# Altium footprint library Common-Parts-Library.PcbLib: 530 footprints (part 16 of 34)
Each footprint in its own frame and in the unit in brackets; x right, y up, seen from the top. Pads: shape width x height; smd on the part's side, far side on the other; paste and mask are expansions set on the pad; w line width, h text height; cw(c..) or ccw(c..) is an arc to the next point about the centre after c.
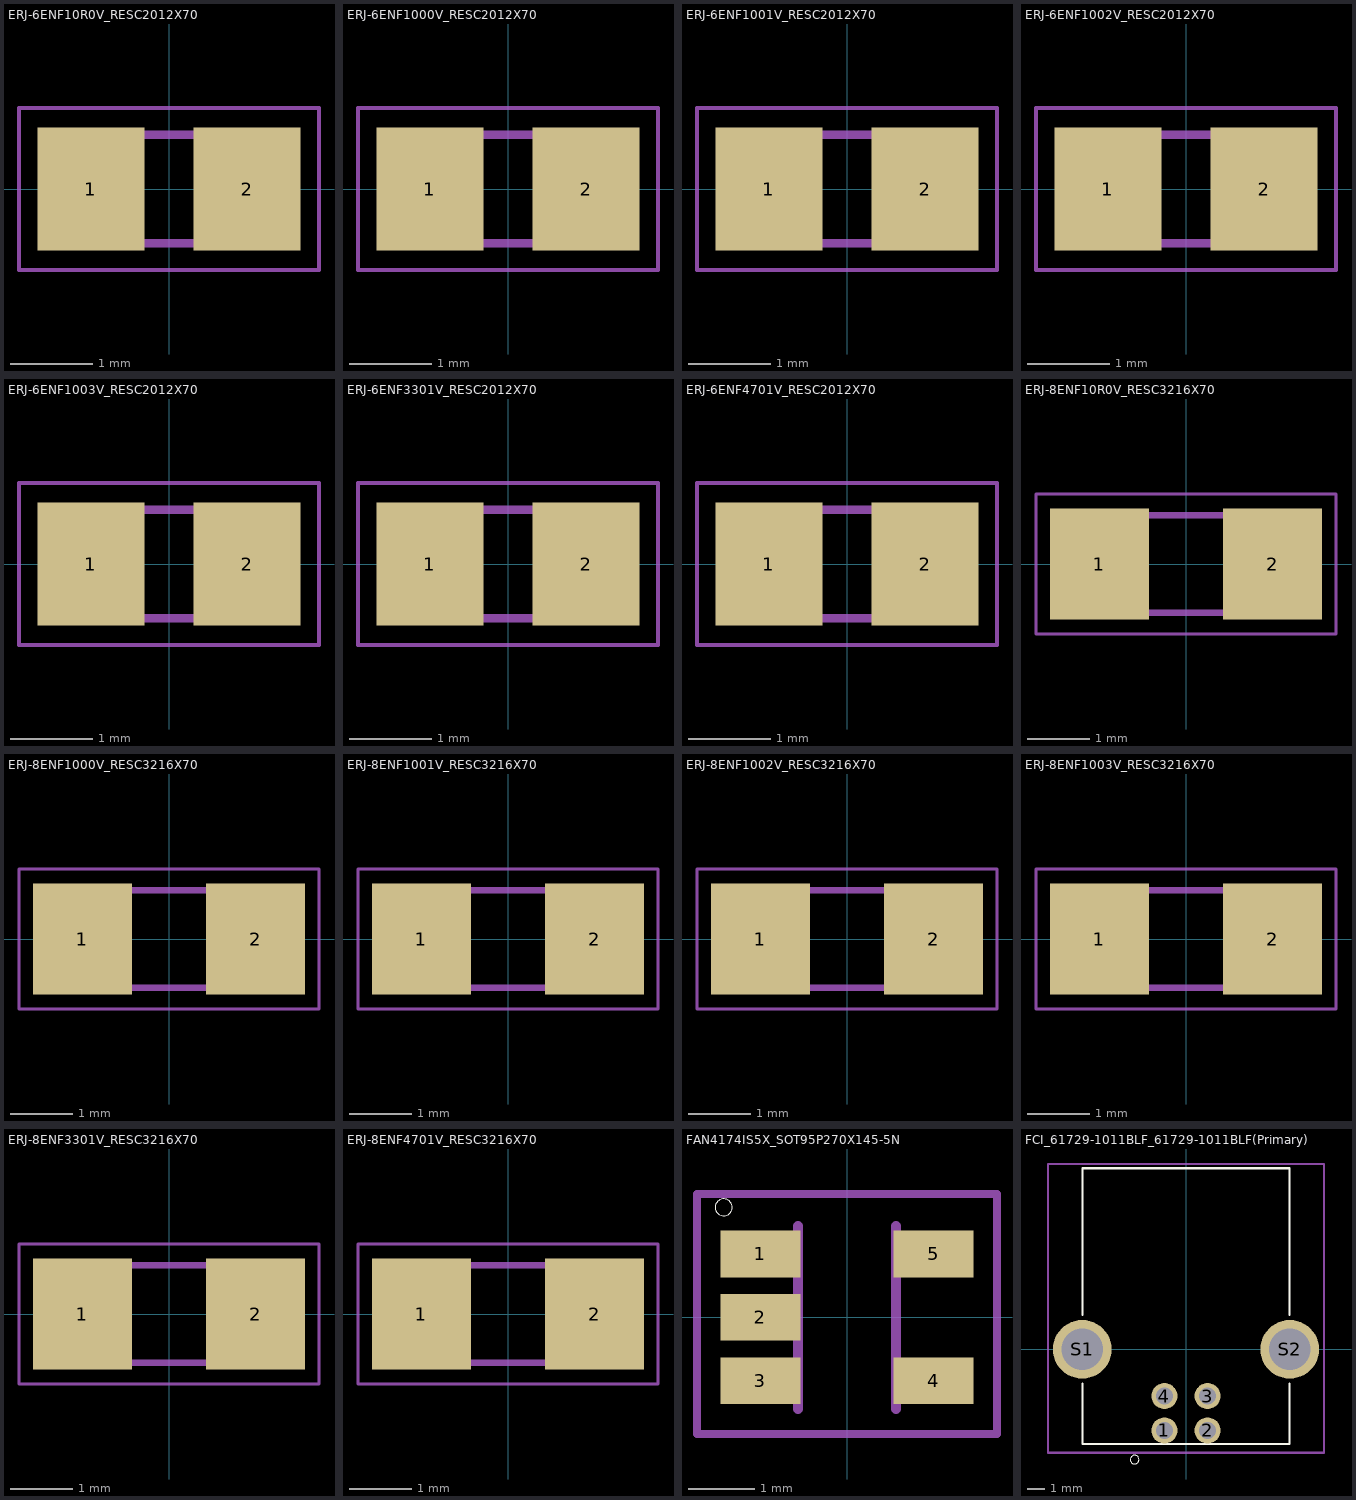
[diagram p15: the footprints below, top view; thin cyan lines are the x and y axes]

## ERJ-6ENF10R0V_RESC2012X70 [mm]
pads (2):
  rect 1.3x1.5 smd: 1(-0.95,0) 2(0.95,0)
Mechanical 1:
  region: 0.356,0.726 1.106,0.726 1.106,-0.724 0.356,-0.724
  region: -1.094,0.726 -0.342,0.726 -0.342,-0.725 -1.094,-0.725
  lines w0.051: -1.823,-0.983 -1.823,0.983 1.823,0.983 1.823,-0.983 -1.823,-0.983
  lines w0.102: -0.381,0.66 0.381,0.66 ; -0.356,-0.66 0.381,-0.66

## ERJ-6ENF1000V_RESC2012X70 [mm]
pads (2):
  rect 1.3x1.5 smd: 1(-0.95,0) 2(0.95,0)
Mechanical 1:
  region: 0.356,0.726 1.106,0.726 1.106,-0.725 0.356,-0.725
  region: -1.095,0.726 -0.342,0.726 -0.342,-0.726 -1.095,-0.726
  lines w0.051: -1.823,-0.983 -1.823,0.983 1.823,0.983 1.823,-0.983 -1.823,-0.983
  lines w0.102: -0.381,0.66 0.381,0.66 ; -0.356,-0.66 0.381,-0.66

## ERJ-6ENF1001V_RESC2012X70 [mm]
pads (2):
  rect 1.3x1.5 smd: 1(-0.95,0) 2(0.95,0)
Mechanical 1:
  region: 0.356,0.726 1.106,0.726 1.106,-0.725 0.356,-0.725
  region: -1.093,0.726 -0.342,0.726 -0.342,-0.724 -1.093,-0.724
  lines w0.051: -1.823,-0.983 -1.823,0.983 1.823,0.983 1.823,-0.983 -1.823,-0.983
  lines w0.102: -0.381,0.66 0.381,0.66 ; -0.356,-0.66 0.381,-0.66

## ERJ-6ENF1002V_RESC2012X70 [mm]
pads (2):
  rect 1.3x1.5 smd: 1(-0.95,0) 2(0.95,0)
Mechanical 1:
  region: 0.356,0.726 1.106,0.726 1.106,-0.725 0.356,-0.725
  region: -1.096,0.726 -0.342,0.726 -0.342,-0.726 -1.096,-0.726
  lines w0.051: -1.823,-0.983 -1.823,0.983 1.823,0.983 1.823,-0.983 -1.823,-0.983
  lines w0.102: -0.381,0.66 0.381,0.66 ; -0.356,-0.66 0.381,-0.66

## ERJ-6ENF1003V_RESC2012X70 [mm]
pads (2):
  rect 1.3x1.5 smd: 1(-0.95,0) 2(0.95,0)
Mechanical 1:
  region: 0.356,0.726 1.106,0.726 1.106,-0.726 0.356,-0.726
  region: -1.093,0.726 -0.342,0.726 -0.342,-0.725 -1.093,-0.725
  lines w0.051: -1.823,-0.983 -1.823,0.983 1.823,0.983 1.823,-0.983 -1.823,-0.983
  lines w0.102: -0.381,0.66 0.381,0.66 ; -0.356,-0.66 0.381,-0.66

## ERJ-6ENF3301V_RESC2012X70 [mm]
pads (2):
  rect 1.3x1.5 smd: 1(-0.95,0) 2(0.95,0)
Mechanical 1:
  region: 0.356,0.726 1.106,0.726 1.106,-0.725 0.356,-0.725
  region: -1.093,0.726 -0.342,0.726 -0.342,-0.725 -1.093,-0.725
  lines w0.051: -1.823,-0.983 -1.823,0.983 1.823,0.983 1.823,-0.983 -1.823,-0.983
  lines w0.102: -0.381,0.66 0.381,0.66 ; -0.356,-0.66 0.381,-0.66

## ERJ-6ENF4701V_RESC2012X70 [mm]
pads (2):
  rect 1.3x1.5 smd: 1(-0.95,0) 2(0.95,0)
Mechanical 1:
  region: 0.357,0.726 1.106,0.726 1.106,-0.726 0.357,-0.726
  region: -1.095,0.726 -0.342,0.726 -0.342,-0.726 -1.095,-0.726
  lines w0.051: -1.823,-0.983 -1.823,0.983 1.823,0.983 1.823,-0.983 -1.823,-0.983
  lines w0.102: -0.381,0.66 0.381,0.66 ; -0.356,-0.66 0.381,-0.66

## ERJ-8ENF10R0V_RESC3216X70 [mm]
pads (2):
  rect 1.6x1.8 smd: 1(-1.4,0) 2(1.4,0)
Mechanical 1:
  lines w0.051: -2.423,-1.133 -2.423,1.133 2.423,1.133 2.423,-1.133 -2.423,-1.133
  lines w0.102: -0.965,-0.787 0.965,-0.787 ; -0.965,0.787 0.965,0.787

## ERJ-8ENF1000V_RESC3216X70 [mm]
pads (2):
  rect 1.6x1.8 smd: 1(-1.4,0) 2(1.4,0)
Mechanical 1:
  lines w0.051: -2.423,-1.133 -2.423,1.133 2.423,1.133 2.423,-1.133 -2.423,-1.133
  lines w0.102: -0.965,-0.787 0.965,-0.787 ; -0.965,0.787 0.965,0.787

## ERJ-8ENF1001V_RESC3216X70 [mm]
pads (2):
  rect 1.6x1.8 smd: 1(-1.4,0) 2(1.4,0)
Mechanical 1:
  lines w0.051: -2.423,-1.133 -2.423,1.133 2.423,1.133 2.423,-1.133 -2.423,-1.133
  lines w0.102: -0.965,-0.787 0.965,-0.787 ; -0.965,0.787 0.965,0.787

## ERJ-8ENF1002V_RESC3216X70 [mm]
pads (2):
  rect 1.6x1.8 smd: 1(-1.4,0) 2(1.4,0)
Mechanical 1:
  lines w0.051: -2.423,-1.133 -2.423,1.133 2.423,1.133 2.423,-1.133 -2.423,-1.133
  lines w0.102: -0.965,-0.787 0.965,-0.787 ; -0.965,0.787 0.965,0.787

## ERJ-8ENF1003V_RESC3216X70 [mm]
pads (2):
  rect 1.6x1.8 smd: 1(-1.4,0) 2(1.4,0)
Mechanical 1:
  lines w0.051: -2.423,-1.133 -2.423,1.133 2.423,1.133 2.423,-1.133 -2.423,-1.133
  lines w0.102: -0.965,-0.787 0.965,-0.787 ; -0.965,0.787 0.965,0.787

## ERJ-8ENF3301V_RESC3216X70 [mm]
pads (2):
  rect 1.6x1.8 smd: 1(-1.4,0) 2(1.4,0)
Mechanical 1:
  lines w0.051: -2.423,-1.133 -2.423,1.133 2.423,1.133 2.423,-1.133 -2.423,-1.133
  lines w0.102: -0.965,-0.787 0.965,-0.787 ; -0.965,0.787 0.965,0.787

## ERJ-8ENF4701V_RESC3216X70 [mm]
pads (2):
  rect 1.6x1.8 smd: 1(-1.4,0) 2(1.4,0)
Mechanical 1:
  lines w0.051: -2.423,-1.133 -2.423,1.133 2.423,1.133 2.423,-1.133 -2.423,-1.133
  lines w0.102: -0.965,-0.787 0.965,-0.787 ; -0.965,0.787 0.965,0.787

## FAN4174IS5X_SOT95P270X145-5N [mm]
pads (5):
  rect 1.2x0.7 smd: 1(-1.3,0.95) 2(-1.3,0) 3(-1.3,-0.95) 4(1.3,-0.95) 5(1.3,0.95)
Top Overlay:
  circle w0: c-1.85,1.65 r0.127
Mechanical 1:
  region: 1.425,1.2 1.425,0.7 0.775,0.7 0.775,1.2
  region: 1.427,-0.702 1.427,-1.2 0.775,-1.2 0.775,-0.702
  region: -0.775,-0.7 -0.775,-1.205 -1.43,-1.205 -1.43,-0.7
  region: -0.776,0.251 -0.776,-0.251 -1.426,-0.251 -1.426,0.251
  region: -0.778,1.203 -0.778,0.699 -1.426,0.699 -1.426,1.203
  lines w0.127: -2.25,-1.75 2.25,-1.75 2.25,1.85 -2.25,1.85 -2.25,-1.75
  lines w0.152: -0.735,-1.372 -0.735,1.372 ; 0.735,-1.372 0.735,1.372

## FCI_61729-1011BLF_61729-1011BLF(Primary) [mm]
pads (6):
  round 1.508 hole 1: 1(-1.25,-4.71) 2(1.25,-4.71) 3(1.25,-2.71) 4(-1.25,-2.71)
  round 3.416 hole 2.4: S1(-6.02,0) S2(6.02,0)
Top Overlay:
  circle w0: c-2.98,-6.4 r0.254
  lines w0.127: -6,-2 -6,-5.5 6,-5.5 6,-2 ; -6,2 -6,10.5 6,10.5 6,2
Mechanical 1:
  lines w0.127: -8,-6 -8,10.75 8,10.75 8,-6 -8,-6